# EAGLE library part SDWDET (library ZMPLC)
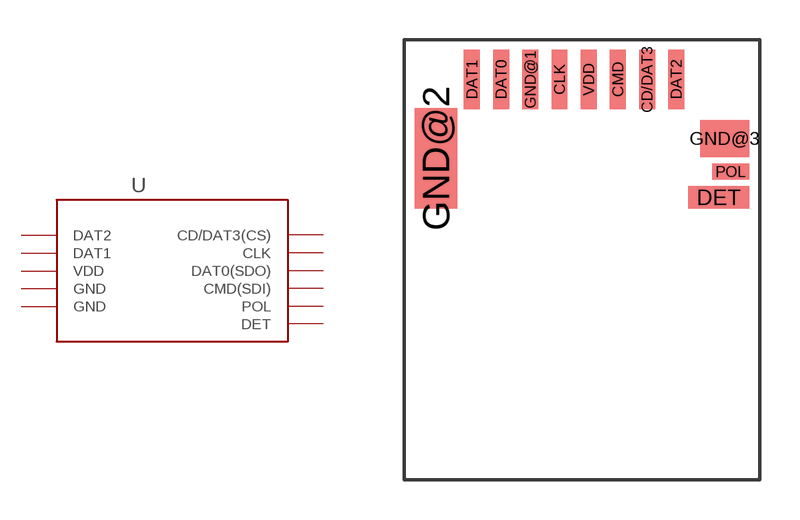
[diagram p10: symbol with the pads of SD_W_DETECT; footprint SD_W_DETECT]

Designator prefix -

## SDWDET  [SD_W_DETECT]
CD/DAT3  CD/DAT3(CS)
CLK  CLK
CMD  CMD(SDI)
DAT0  DAT0(SDO)
DAT1  DAT1
DAT2  DAT2
DET  DET  pas
GND@1  GND  pwr
GND@2  GND  pwr
POL  POL  pas
VDD  VDD  pwr

## Footprint SD_W_DETECT (pad centres in mm)
smd 0.6 x 2.25: CD/DAT3 2.75,0.5; CLK -0.55,0.5; CMD 1.65,0.5; DAT0 -2.75,0.5; DAT1 -3.85,0.5; DAT2 3.85,0.5; GND@1 -1.65,0.5; VDD 0.55,0.5
smd 2.3 x 0.85: DET 5.45,-3.95
smd 1.6 x 3.79: GND@2 -5.2,-2.48
smd 1.85 x 1.4: GND@3 5.675,-1.725
smd 1.4 x 0.6: POL 5.9,-2.975